# Altium footprint library 105162-0001.PcbLib: 1 footprints
Each footprint in its own frame and in the unit in brackets; x right, y up, seen from the top. Pads: shape width x height; smd on the part's side, far side on the other; paste and mask are expansions set on the pad; w line width, h text height; cw(c..) or ccw(c..) is an arc to the next point about the centre after c.
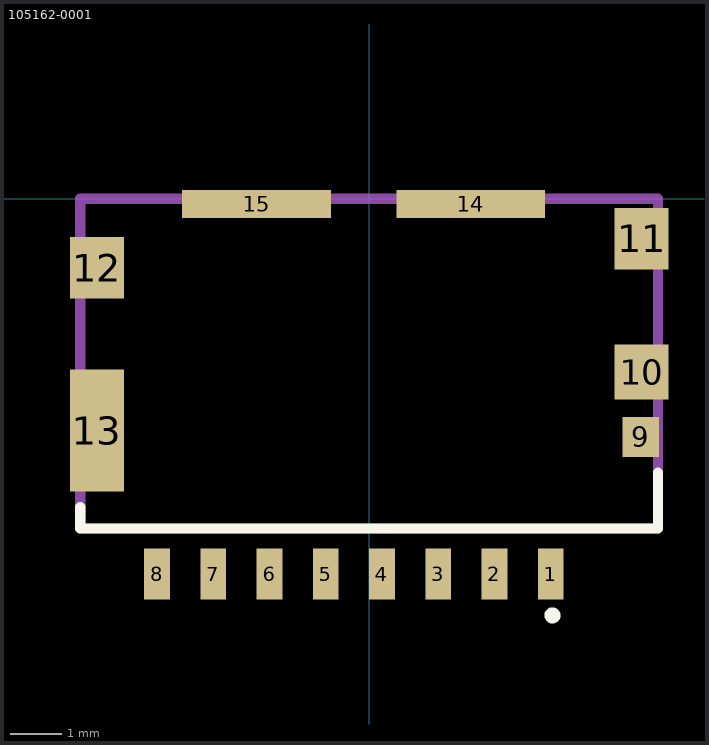
[diagram p0: the footprint, top view; thin cyan lines are the x and y axes]

## 105162-0001 [mm]
pads (15):
  rect 0.5x1 smd: 1(3.55,-7.34) 2(2.45,-7.34) 3(1.35,-7.34) 4(0.25,-7.34) 5(-0.85,-7.34) 6(-1.95,-7.34) 7(-3.05,-7.34) 8(-4.15,-7.34)
  rect 0.72x0.78 smd: 9(5.31,-4.66)
  rect 1.05x1.08 smd: 10(5.325,-3.39)
  rect 1.05x1.2 smd: 11(5.325,-0.78) 12(-5.325,-1.35)
  rect 1.05x2.39 smd: 13(-5.325,-4.535)
  rect 2.91x0.55 smd: 14(1.986,-0.105) 15(-2.204,-0.105)
L26-Silk Screen Top (Multiple PADS layers...):
  circle w0.2: c3.584,-8.15 r0.057
  lines w0.2: -5.65,-6.028 -5.65,-6.45 5.65,-6.45 5.65,-5.355
L15 (Multiple PADS layers...):
  lines w0.2: -5.65,-6.45 5.65,-6.45 5.65,0 -5.65,0 -5.65,-6.45